# Altium footprint library FootprintLib.PcbLib: 36 footprints (part 3 of 3)
Each footprint in its own frame and in the unit in brackets; x right, y up, seen from the top. Pads: shape width x height; smd on the part's side, far side on the other; paste and mask are expansions set on the pad; w line width, h text height; cw(c..) or ccw(c..) is an arc to the next point about the centre after c.
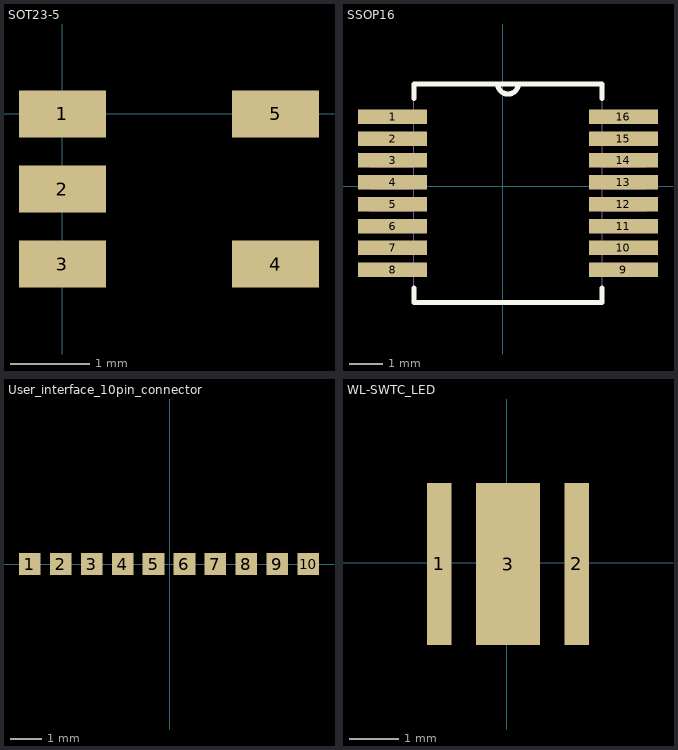
[diagram p2: the footprints below, top view; thin cyan lines are the x and y axes]

## SOT23-5 [mm]
pads (5):
  rect 1.1x0.6 smd: 1(0,0) 2(0,-0.95) 3(0,-1.9) 4(2.7,-1.9) 5(2.7,0)

## SSOP16 [mil]
pads (16):
  rect 81x17 smd: 1(-129,81.57) 2(-129,55.98) 3(-129,30.39) 4(-129,4.8) 5(-129,-20.8) 6(-129,-46.39) 7(-129,-71.98) 8(-129,-97.57) 9(141,-97.57) 10(141,-71.98) 11(141,-46.39) 12(141,-20.8) 13(141,4.8) 14(141,30.39) 15(141,55.98) 16(141,81.57)
Top Overlay:
  lines w6: -104,-119.07 -104,-136 116,-136 116,-119.07 ; -104,103.07 -104,120 116,120 116,103.07 ; -6,120 ccw(c6,120) 18,120
Mechanical 1:
  lines w0: -6,120 ccw(c6,120) 18,120 ; -155.5,-105.07 -104,-105.07 -104,-90.07 -155.5,-90.07 -155.5,-105.07 ; -155.5,-79.48 -104,-79.48 -104,-64.48 -155.5,-64.48 -155.5,-79.48 ; -155.5,-53.89 -104,-53.89 -104,-38.89 -155.5,-38.89 -155.5,-53.89 ; -155.5,-28.3 -104,-28.3 -104,-13.3 -155.5,-13.3 -155.5,-28.3 ; -155.5,-2.7 -104,-2.7 -104,12.3 -155.5,12.3 -155.5,-2.7 ; -155.5,22.89 -104,22.89 -104,37.89 -155.5,37.89 -155.5,22.89 ; -155.5,48.48 -104,48.48 -104,63.48 -155.5,63.48 -155.5,48.48 ; -155.5,74.07 -104,74.07 -104,89.07 -155.5,89.07 -155.5,74.07 ; -104,-136 -104,120 116,120 116,-136 -104,-136 ; 116,-105.07 167.5,-105.07 167.5,-90.07 116,-90.07 116,-105.07 ; 116,-79.48 167.5,-79.48 167.5,-64.48 116,-64.48 116,-79.48 ; 116,-53.89 167.5,-53.89 167.5,-38.89 116,-38.89 116,-53.89 ; 116,-28.3 167.5,-28.3 167.5,-13.3 116,-13.3 116,-28.3 ; 116,-2.7 167.5,-2.7 167.5,12.3 116,12.3 116,-2.7 ; 116,22.89 167.5,22.89 167.5,37.89 116,37.89 116,22.89 ; 116,48.48 167.5,48.48 167.5,63.48 116,63.48 116,48.48 ; 116,74.07 167.5,74.07 167.5,89.07 116,89.07 116,74.07

## User_interface_10pin_connector [mm]
pads (10):
  rect 0.7x0.7 smd: 1(-4.525,0) 2(-3.525,0) 3(-2.525,0) 4(-1.525,0) 5(-0.525,0) 6(0.475,0) 7(1.475,0) 8(2.475,0) 9(3.475,0) 10(4.475,0)

## WL-SWTC_LED [mm]
pads (3):
  rect 0.5x3.3 smd: 1(-1.375,-0.025) 2(1.425,-0.025)
  rect 1.3x3.3 smd: 3(0.025,-0.025)